# Altium schematic symbol library Schlib1.SchLib: 5 symbols
Pins are listed as number, name and electrical type; pins without a type are passive.

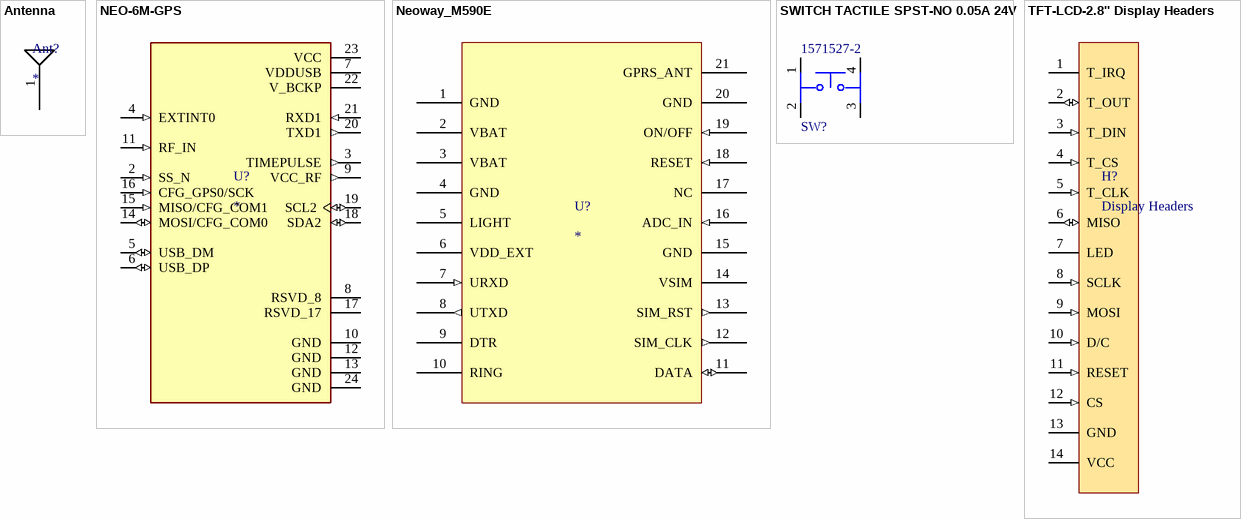
[diagram p0: symbols Antenna to TFT-LCD-2.8'' Display Headers]

## Antenna
designator Ant?
footprint Antenna
pins: 1

## NEO-6M-GPS
designator U?
GPS Development Tools SparkFun GNSS-RTK Dead Reckoning Breakout - ZED-F9K (Qwiic); MP: NEO-6M-GPS; MF: u-blox; SnapEDA_Link: https://www.snapeda.com/parts/NEO-6M-GPS/u-blox/view-part/?ref=snap; Availability: Not in stock; Price: None; Check_prices: https://www.snapeda.com/parts/NEO-6M-GPS/u-blox/view-part/?ref=eda; Value: *; Package: None
footprint XCVR_NEO-6M-GPS
pins: 2 SS_N (in), 3 TIMEPULSE (out), 4 EXTINT0 (in), 5 USB_DM (io), 6 USB_DP (io), 7 VDDUSB (power), 8 RSVD_8, 9 VCC_RF (out), 10 GND (power), 11 RF_IN (in), 12 GND (power), 13 GND (power), 14 MOSI/CFG_COM0 (io), 15 MISO/CFG_COM1 (in), 16 CFG_GPS0/SCK (in), 17 RSVD_17, 18 SDA2 (io), 19 SCL2 (io), 20 TXD1 (out), 21 RXD1 (in), 22 V_BCKP (power), 23 VCC (power), 24 GND (power)

## Neoway_M590E
designator U?
footprint Neoway-M590E
pins: 1 GND, 2 VBAT, 3 VBAT, 4 GND, 5 LIGHT, 6 VDD_EXT, 7 URXD (in), 8 UTXD (out), 9 DTR, 10 RING, 11 DATA (io), 12 SIM_CLK (out), 13 SIM_RST (out), 14 VSIM, 15 GND, 16 ADC_IN (in), 17 NC, 18 RESET (in), 19 ON/OFF (in), 20 GND, 21 GPRS_ANT

## SWITCH TACTILE SPST-NO 0.05A 24V
designator SW?, comment 1571527-2
SWITCH TACTILE SPST-NO 0.05A 24V; Illumination Type: Non-Illuminated; Switch Travel: 0.25mm; Max Current Rating: 50mA; Actuator Type: Standard; Mechanical Life: 200000Cycles; Switch Function: Off-Mom; Actuator Length: 0.7mm; Actuator Material: Polyphenylene; Operating Force: 100gf; Throw Configuration: SPST; Series: FSMJSML, Alcoswitch; Depth: 10mm; Mount: Surface Mount; RoHS Compliant: Yes; Voltage Rating (DC): 24V; Contact Material: Copper Alloy; Case/Package: SMD/SMT; Material: Polyamide; Package Quantity: 1; Packaging: Tape and Reel; ELV: Compliant; Type: Switch; Min Operating Temperature: -35°C; Termination: Gull Wing; Length: 6mm; Orientation: Straight; Current Rating: 50mA; Height: 4.3mm; Max Operating Temperature: 85°C; REACH SVHC: No SVHC; Contact Plating: Silver
footprint FP-1571527-2-MFG
pins: 1, 2, 3, 4

## TFT-LCD-2.8'' Display Headers
designator H?, comment Display Headers
footprint Display Without Cutouts
pins: 1 T_IRQ, 2 T_OUT (io), 3 T_DIN (in), 4 T_CS (in), 5 T_CLK (in), 6 MISO (io), 7 LED (power), 8 SCLK (in), 9 MOSI (in), 10 D/C (in), 11 RESET (in), 12 CS (in), 13 GND (power), 14 VCC (power)